# Altium footprint library Button.PcbLib: 18 footprints (part 2 of 2)
Each footprint in its own frame and in the unit in brackets; x right, y up, seen from the top. Pads: shape width x height; smd on the part's side, far side on the other; paste and mask are expansions set on the pad; w line width, h text height; cw(c..) or ccw(c..) is an arc to the next point about the centre after c.
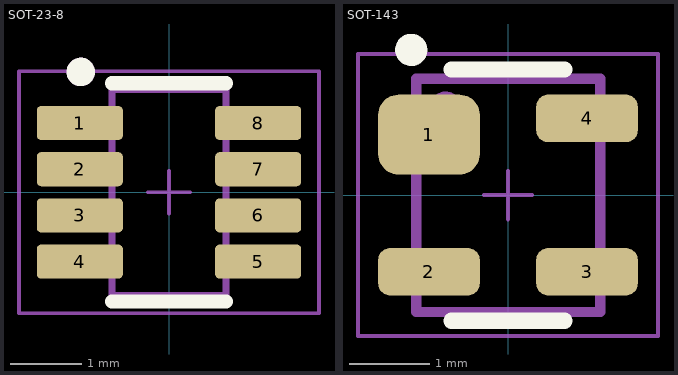
[diagram p1: the footprints below, top view; thin cyan lines are the x and y axes]

## SOT-23-8 [mm]
pads (8):
  rrect25% 1.21x0.48 smd: 1(-1.255,0.975) 2(-1.255,0.325) 3(-1.255,-0.325) 4(-1.255,-0.975) 5(1.255,-0.975) 6(1.255,-0.325) 7(1.255,0.325) 8(1.255,0.975)
Top Overlay:
  circle w0.2: c-1.241,1.693 r0.1
  lines w0.2: -0.8,-1.535 0.8,-1.535 ; -0.8,1.535 0.8,1.535
Mechanical 9:
  text ".Designator" at -5.4,2.4 h3
Mechanical 10:
  text ".Comment" at -2.9,-3.3 h2
Mechanical 13:
  circle w0.2: c-1.241,1.693 r0.1
  lines w0.1: -0.8,-1.45 -0.8,1.45 0.8,1.45 0.8,-1.45 -0.8,-1.45
Mechanical 15:
  lines w0.05: -0.3,0 0.3,0 ; 0,-0.3 0,0.3 ; -2.11,-1.7 -2.11,1.7 2.11,1.7 2.11,-1.7 -2.11,-1.7
3D body "250.STEP": height 1.45, standoff 0, extent -1.4,-1.45 1.4,1.45

## SOT-143 [mm]
pads (4):
  rrect50% 1.26x0.99 smd: 1(-0.98,0.75)
  rrect50% 1.26x0.59 smd: 2(-0.98,-0.95) 3(0.98,-0.95) 4(0.98,0.95)
Top Overlay:
  circle w0.2: c-1.2,1.8 r0.1
  lines w0.2: -0.7,-1.559 0.7,-1.559 ; -0.7,1.559 0.7,1.559
Mechanical 9:
  text ".Designator" at -4.7,4.3 h3
Mechanical 10:
  text ".Comment" at -2.5,2.4 h2
Mechanical 13:
  circle w0.2: c-0.773,1.083 r0.1
  lines w0.127: -1.137,-1.449 -1.137,1.441 1.143,1.441 1.143,-1.449 -1.137,-1.449
Mechanical 15:
  lines w0.05: -0.3,0 0.3,0 ; 0,-0.3 0,0.3 ; -1.86,-1.75 1.86,-1.75 1.86,1.75 -1.86,1.75 -1.86,-1.75
3D body "PRTR5V0U2X.STEP": height 1.1, standoff 0, extent -1.15,-1.45 1.15,1.45